# Altium schematic symbol library Schlib1.SchLib: 2 symbols
Pins are listed as number, name and electrical type; pins without a type are passive.

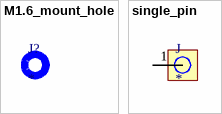
[diagram p0: symbols M1.6_mount_hole to single_pin]

## M1.6_mount_hole
designator J?
footprint M1.6_mount_hole

## single_pin
designator J
single pin header
footprint 1mm_single_pin_thr (1mm_single_pin_through_hole)
pins: 1